# EAGLE library part 1EDN8511BXUSA1 (library 1EDN8511BXUSA1)
INFINEON - 1EDN8511BXUSA1 - MOSFET DRIVER, -40 TO 150DEG C Source: Datasheet <https://www.infineon.com/cms/en/product/power/gate-driver-ics/?>
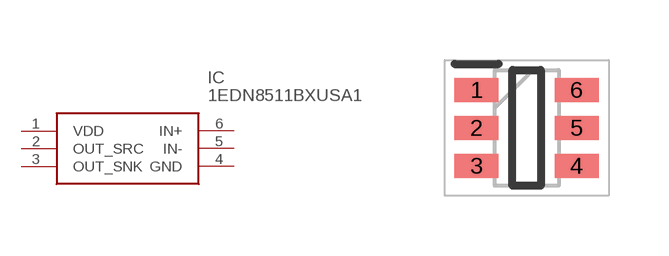
[diagram p0: symbol with the pads of SOT95P280X145-6N; footprint SOT95P280X145-6N]

Designator prefix IC

## 1EDN8511BXUSA1 (Description: INFINEON - 1EDN8511BXUSA1 - MOSFET DRIVER, -40 TO 150DEG C; Height: 1.45mm; Manufacturer_Name: Infineon; Manufacturer_Part_Number: 1EDN8511BXUSA1; Mouser_Part_Number: 726-1EDN8511BXUSA1; Mouser_Price-Stock: https://www.mouser.co.uk/ProductDetail/Infineon-Technologies/1EDN8511BXUSA1?qs=W0yvOO0ixfGKnnVISnHd5g%3D%3D)  [SOT95P280X145-6N]
1  VDD
2  OUT_SRC
3  OUT_SNK
4  GND
5  IN-
6  IN+

## Footprint SOT95P280X145-6N (pad centres in mm)
PG-SOT23-6
smd 1.1 x 0.6: 1 -1.25,0.95; 2 -1.25,0; 3 -1.25,-0.95; 4 1.25,-0.95; 5 1.25,0; 6 1.25,0.95